# Altium footprint library OSA.PcbLib: 7 footprints
Each footprint in its own frame and in the unit in brackets; x right, y up, seen from the top. Pads: shape width x height; smd on the part's side, far side on the other; paste and mask are expansions set on the pad; w line width, h text height; cw(c..) or ccw(c..) is an arc to the next point about the centre after c.
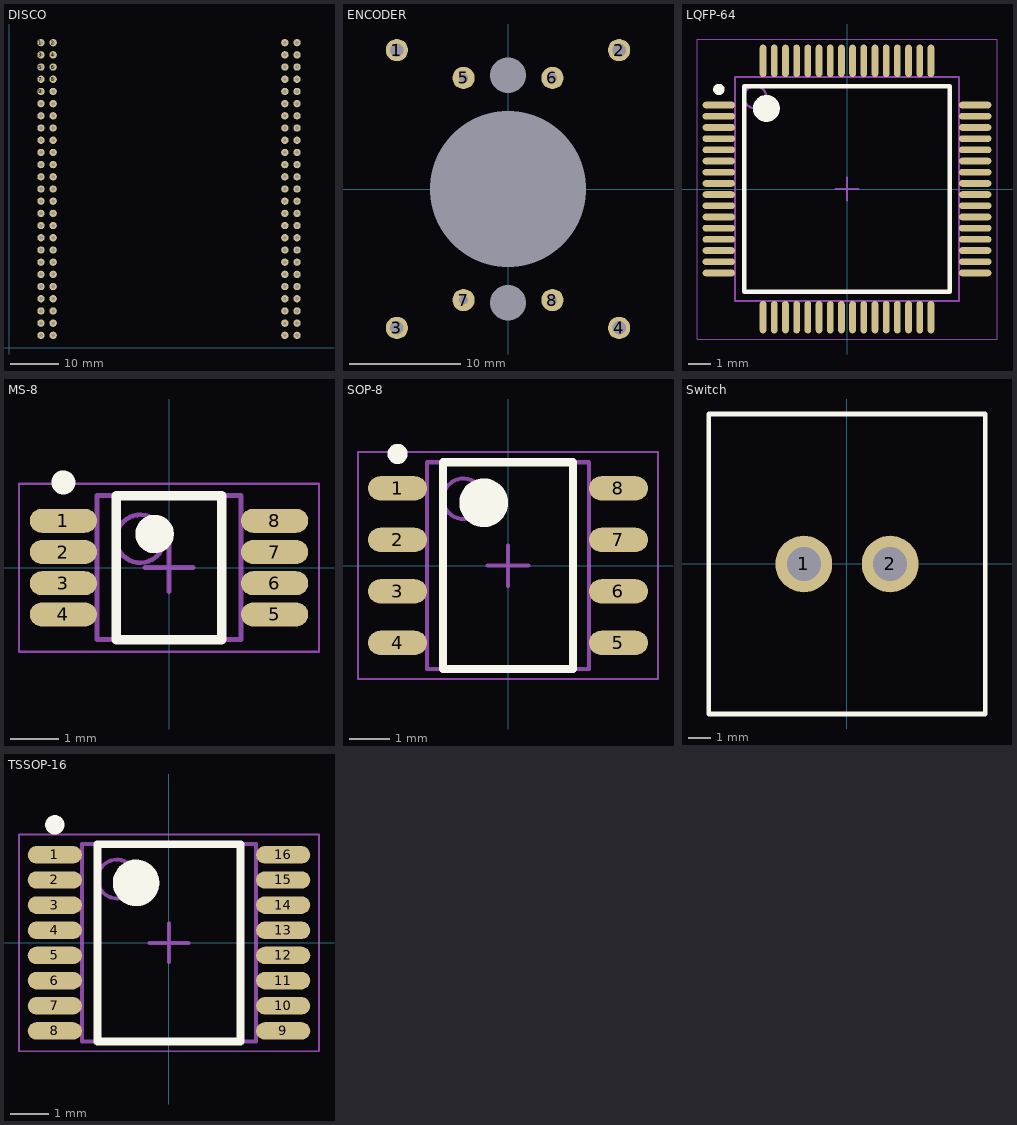
[diagram p0: the footprints below, top view; thin cyan lines are the x and y axes]

## DISCO [mil]
pads (100):
  round 60 hole 30: 1(260.63,2500) 2(360.63,2500) 3(260.63,2400) 4(360.63,2400) 5(260.63,2300) 6(360.63,2300) 7(260.63,2200) 8(360.63,2200) 9(260.63,2100) 10(360.63,2100) 11(260.63,2000) 12(360.63,2000) 13(260.63,1900) 14(360.63,1900) 15(260.63,1800) 16(360.63,1800) 17(260.63,1700) 18(360.63,1700) 19(260.63,1600) 20(360.63,1600) 21(260.63,1500) 22(360.63,1500) 23(260.63,1400) 24(360.63,1400) 25(260.63,1300) 26(360.63,1300) 27(260.63,1200) 28(360.63,1200) 29(260.63,1100) 30(360.63,1100) 31(260.63,1000) 32(360.63,1000) 33(260.63,900) 34(360.63,900) 35(260.63,800) 36(360.63,800) 37(260.63,700) 38(360.63,700) 39(260.63,600) 40(360.63,600) 41(260.63,500) 42(360.63,500) 43(260.63,400) 44(360.63,400) 45(260.63,300) 46(360.63,300) 47(260.63,200) 48(360.63,200) 49(260.63,100) 50(360.63,100) 51(2260.63,2500) 52(2360.63,2500) 53(2260.63,2400) 54(2360.63,2400) 55(2260.63,2300) 56(2360.63,2300) 57(2260.63,2200) 58(2360.63,2200) 59(2260.63,2100) 60(2360.63,2100) 61(2260.63,2000) 62(2360.63,2000) 63(2260.63,1900) 64(2360.63,1900) 65(2260.63,1800) 66(2360.63,1800) 67(2260.63,1700) 68(2360.63,1700) 69(2260.63,1600) 70(2360.63,1600) 71(2260.63,1500) 72(2360.63,1500) 73(2260.63,1400) 74(2360.63,1400) 75(2260.63,1300) 76(2360.63,1300) 77(2260.63,1200) 78(2360.63,1200) 79(2260.63,1100) 80(2360.63,1100) 81(2260.63,1000) 82(2360.63,1000) 83(2260.63,900) 84(2360.63,900) 85(2260.63,800) 86(2360.63,800) 87(2260.63,700) 88(2360.63,700) 89(2260.63,600) 90(2360.63,600) 91(2260.63,500) 92(2360.63,500) 93(2260.63,400) 94(2360.63,400) 95(2260.63,300) 96(2360.63,300) 97(2260.63,200) 98(2360.63,200) 99(2260.63,100) 100(2360.63,100)
3D body "MB1035-F303C-E02.step": height 134.25, standoff 9.63, extent 7.88,9.85 2606.3,3828.74

## ENCODER [mm]
pads (11):
  round 2 hole 1.2: 1(-10,12.5) 2(10,12.5) 3(-10,-12.5) 4(10,-12.5)
  round 2 hole 0.8: 5(-4,10) 6(4,10) 7(-4,-10) 8(4,-10)
  round 2 hole 3.2 unplated: ""(0,-10.25) ""(0,10.25)
  round 0 hole 14 unplated: ""(0,0)
3D body "Encoder.stp": height 29.5, standoff -3, extent -13.25,-14.85 13.25,14.85

## LQFP-64 [mm] "TSQFP, 64-Leads, Body 10.00x10.00mm, Pitch 0.50mm, IPC Medium Density"
height 1.6
pads (64):
  oval 1.45x0.3 smd: 1(-5.725,3.75) 2(-5.725,3.25) 3(-5.725,2.75) 4(-5.725,2.25) 5(-5.725,1.75) 6(-5.725,1.25) 7(-5.725,0.75) 8(-5.725,0.25) 9(-5.725,-0.25) 10(-5.725,-0.75) 11(-5.725,-1.25) 12(-5.725,-1.75) 13(-5.725,-2.25) 14(-5.725,-2.75) 15(-5.725,-3.25) 16(-5.725,-3.75) 33(5.725,-3.75) 34(5.725,-3.25) 35(5.725,-2.75) 36(5.725,-2.25) 37(5.725,-1.75) 38(5.725,-1.25) 39(5.725,-0.75) 40(5.725,-0.25) 41(5.725,0.25) 42(5.725,0.75) 43(5.725,1.25) 44(5.725,1.75) 45(5.725,2.25) 46(5.725,2.75) 47(5.725,3.25) 48(5.725,3.75)
  oval 0.3x1.45 smd: 17(-3.75,-5.725) 18(-3.25,-5.725) 19(-2.75,-5.725) 20(-2.25,-5.725) 21(-1.75,-5.725) 22(-1.25,-5.725) 23(-0.75,-5.725) 24(-0.25,-5.725) 25(0.25,-5.725) 26(0.75,-5.725) 27(1.25,-5.725) 28(1.75,-5.725) 29(2.25,-5.725) 30(2.75,-5.725) 31(3.25,-5.725) 32(3.75,-5.725) 49(3.75,5.725) 50(3.25,5.725) 51(2.75,5.725) 52(2.25,5.725) 53(1.75,5.725) 54(1.25,5.725) 55(0.75,5.725) 56(0.25,5.725) 57(-0.25,5.725) 58(-0.75,5.725) 59(-1.25,5.725) 60(-1.75,5.725) 61(-2.25,5.725) 62(-2.75,5.725) 63(-3.25,5.725) 64(-3.75,5.725)
Top Overlay:
  circle w0.25: c-5.725,4.45 r0.125
  circle w0.6: c-3.6,3.6 r0.3
  lines w0.2: -4.6,-4.6 -4.6,4.6 4.6,4.6 4.6,-4.6 -4.6,-4.6
Mechanical 13:
  circle w0.1: c-4.1,4.1 r0.5
  lines w0.1: -5,-5 -5,5 5,5 5,-5 -5,-5
Mechanical 15:
  lines w0.05: -6.7,-6.7 -6.7,6.7 6.7,6.7 6.7,-6.7 -6.7,-6.7
  lines w0.1: -0.5,0 0.5,0 ; 0,-0.5 0,0.5
3D body "LQFP-64.step": height 1.6, standoff 0, extent -6,-6 6,6

## MS-8 [mm] "TSOP, 8-Leads, Body 3.00x3.00mm, Pitch 0.65mm, IPC Medium Density"
height 0.86
pads (8):
  oval 1.4x0.5 smd: 1(-2.2,0.975) 2(-2.2,0.325) 3(-2.2,-0.325) 4(-2.2,-0.975) 5(2.2,-0.975) 6(2.2,-0.325) 7(2.2,0.325) 8(2.2,0.975)
Top Overlay:
  circle w0.4: c-0.3,0.7 r0.2
  circle w0.25: c-2.2,1.775 r0.125
  lines w0.2: -1.1,-1.5 1.1,-1.5 1.1,1.5 -1.1,1.5 -1.1,-1.5
Mechanical 13:
  circle w0.1: c-0.6,0.6 r0.5
  lines w0.1: -1.5,-1.5 1.5,-1.5 1.5,1.5 -1.5,1.5 -1.5,-1.5
Mechanical 15:
  lines w0.05: -3.125,-1.75 3.125,-1.75 3.125,1.75 -3.125,1.75 -3.125,-1.75
  lines w0.1: -0.5,0 0.5,0 ; 0,-0.5 0,0.5
3D body "MS-8.step": height 0.86, standoff 0, extent -2.45,-1.5 2.45,1.5

## SOP-8 [mm] "SOP, 8-Leads, Body 4.90x3.90mm, Pitch 1.27mm, IPC Medium Density"
height 1.75
pads (8):
  oval 1.45x0.6 smd: 1(-2.725,1.905) 2(-2.725,0.635) 3(-2.725,-0.635) 4(-2.725,-1.905) 5(2.725,-1.905) 6(2.725,-0.635) 7(2.725,0.635) 8(2.725,1.905)
Top Overlay:
  circle w0.25: c-2.725,2.755 r0.125
  circle w0.6: c-0.6,1.55 r0.3
  lines w0.2: -1.6,-2.55 -1.6,2.55 1.6,2.55 1.6,-2.55 -1.6,-2.55
Mechanical 13:
  circle w0.1: c-1.1,1.65 r0.5
  lines w0.1: -2,-2.55 -2,2.55 2,2.55 2,-2.55 -2,-2.55
Mechanical 15:
  lines w0.05: -3.7,-2.8 -3.7,2.8 3.7,2.8 3.7,-2.8 -3.7,-2.8
  lines w0.1: -0.5,0 0.5,0 ; 0,-0.5 0,0.5
3D body "SOP-8.step": height 1.75, standoff 0, extent -3,-2.55 3,2.55

## Switch [mm]
pads (2):
  round 2.5 hole 1.5: 1(-1.9,0) 2(1.9,0)
Top Overlay:
  lines w0.2: -6.096,-6.604 6.096,-6.604 6.096,6.604 -6.096,6.604 -6.096,-6.604
3D body "KeyboardSwitch.stp": height 19.5, standoff -4.3, extent -6,-7 6,7

## TSSOP-16 [mm] "TSOP, 16-Leads, Body 5.00x4.40mm, Pitch 0.65mm, IPC Medium Density"
height 1.2
pads (16):
  oval 1.4x0.45 smd: 1(-2.95,2.275) 2(-2.95,1.625) 3(-2.95,0.975) 4(-2.95,0.325) 5(-2.95,-0.325) 6(-2.95,-0.975) 7(-2.95,-1.625) 8(-2.95,-2.275) 9(2.95,-2.275) 10(2.95,-1.625) 11(2.95,-0.975) 12(2.95,-0.325) 13(2.95,0.325) 14(2.95,0.975) 15(2.95,1.625) 16(2.95,2.275)
Top Overlay:
  circle w0.25: c-2.95,3.05 r0.125
  circle w0.6: c-0.85,1.55 r0.3
  lines w0.2: -1.85,-2.55 -1.85,2.55 1.85,2.55 1.85,-2.55 -1.85,-2.55
Mechanical 13:
  circle w0.1: c-1.35,1.65 r0.5
  lines w0.1: -2.25,-2.55 -2.25,2.55 2.25,2.55 2.25,-2.55 -2.25,-2.55
Mechanical 15:
  lines w0.05: -3.875,-2.8 -3.875,2.8 3.875,2.8 3.875,-2.8 -3.875,-2.8
  lines w0.1: -0.5,0 0.5,0 ; 0,-0.5 0,0.5
3D body "TSSOP-16.step": height 1.2, standoff 0, extent -3.2,-2.55 3.2,2.55